# EAGLE library part RFM95/96/97/98 (library Module)
Low Cost Low Power Long Range (LoRa) Transceiver Module
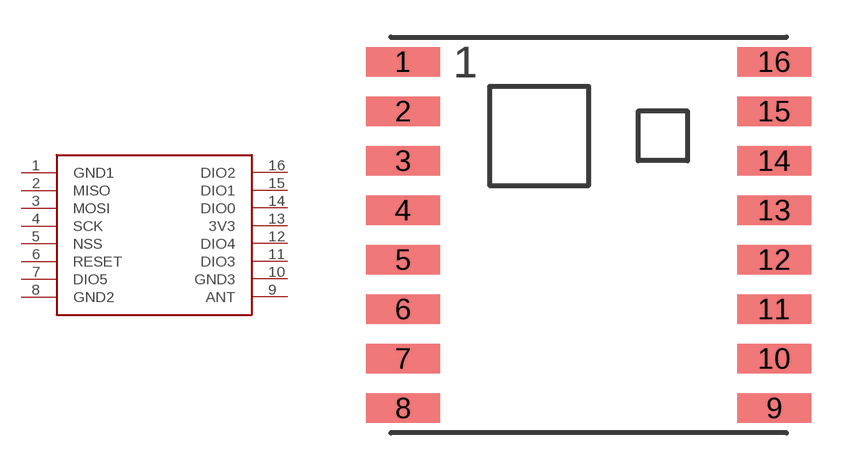
[diagram p9: symbol with the pads of RFM95/96/97/98; footprint RFM95/96/97/98]

Designator prefix -

## RFM95/96/97/98 (CYTRON-PC: RFM95/96/97/98; DESC: Low Cost Low Power Long Range (LoRa) Transceiver Module)  [RFM95/96/97/98]
1  GND1
2  MISO
3  MOSI
4  SCK
5  NSS
6  RESET
7  DIO5
8  GND2
9  ANT
10  GND3
11  DIO3
12  DIO4
13  3V3
14  DIO0
15  DIO1
16  DIO2

## Footprint RFM95/96/97/98 (pad centres in mm)
smd 3 x 1.2: 1 -7.5,7; 2 -7.5,5; 3 -7.5,3; 4 -7.5,1; 5 -7.5,-1; 6 -7.5,-3; 7 -7.5,-5; 8 -7.5,-7; 9 7.5,-7; 10 7.5,-5; 11 7.5,-3; 12 7.5,-1; 13 7.5,1; 14 7.5,3; 15 7.5,5; 16 7.5,7